# Altium integrated library RAM3001.IntLib: 15 symbols
Pins are listed as number, name and electrical type; pins without a type are passive.

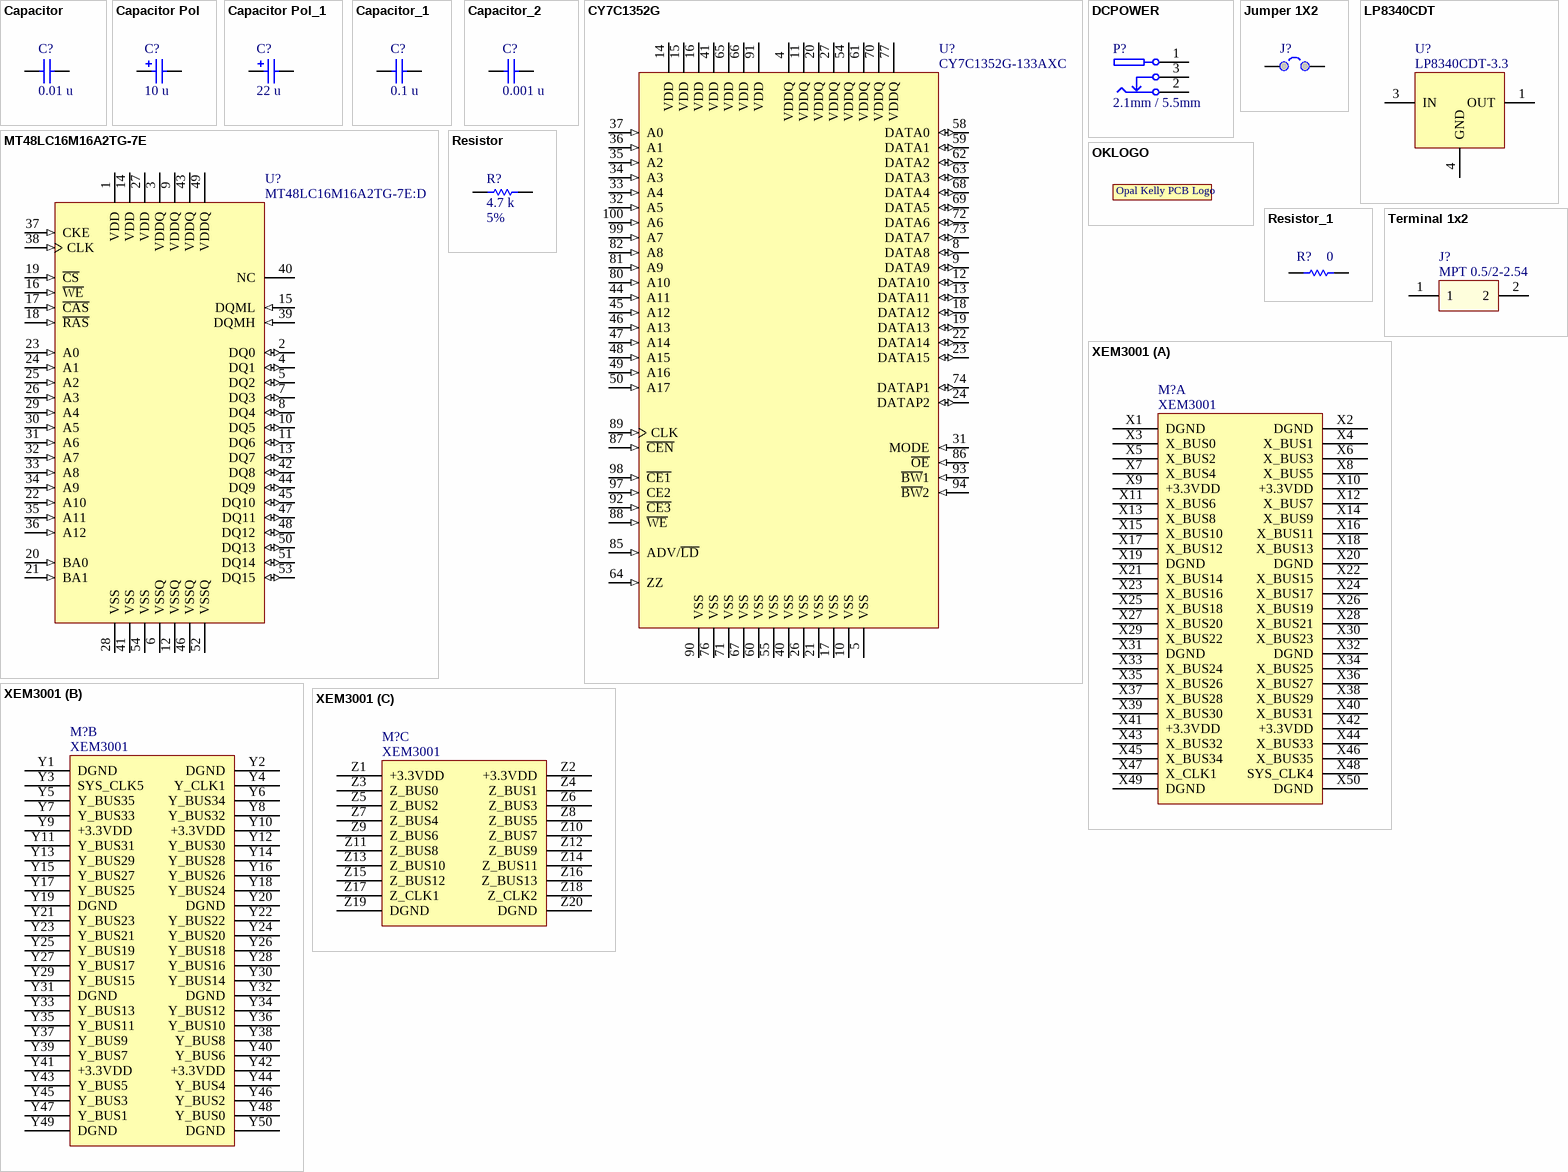
[diagram p0: symbols Capacitor to XEM3001]

## Capacitor
designator C?, comment value 0.01 u  (hidden comment: SM-0603, 10%, 16v)
Ceramic capacitor; Manufacturer: 14; PartNumber: 20; Class I: Passive; Published: 8-Jun-2000; Revision: July-2002: Re-released for DXP Platform.; Publisher: Altium Limited; Class II: Capacitor; Price: 0.01
simulation model CAP (Capacitor)
signal-integrity model Cap
footprint CC1608-0603 (Chip Capacitor; Body 1.6 x 0.8 mm (LxW typ))
footprint CC1005-0402 (Chip Capacitor; Body 1.0 x 0.5 mm (LxW typ))
footprint CC2012-0805 (Chip Capacitor; Body 2.0 x 1.2 mm (LxW typ))
footprint CC3216-1206 (Chip Capacitor; Body 3.2 x 1.6 mm (LxW typ))
pins: 1, 2

## Capacitor Pol
designator C?, comment value 10 u  (hidden comment: SM-A, 10v, 10%)
Tantalum capacitor; Manufacturer: 13; PartNumber: 18; ManufacturerPartNumber: T491A106K010AS; Class I: Passive; Published: 8-Jun-2000; Revision: July-2002: Re-released for DXP Platform.; Publisher: Altium Limited; Class II: Capacitor; Price: 0.16; Distributor: 1; DistributorPartNumber: 399-1563-1-ND
footprint TC2013-0805 (Capacitor, SM Tantalum; Body 2.0 x 1.3 mm (LxW typ))
footprint TC3216-1206 (Capacitor, SM Tantalum; Body 3.2 x 1.6 mm (LxW typ))
footprint TC3528-1411 (Capacitor, SM Tantalum; Body 3.5 x 2.8 mm (LxW typ))
footprint TC6032-2412 (Capacitor, SM Tantalum; Body 6.0 x 3.2 mm (LxW typ))
pins: 1, 2

## Capacitor Pol_1
designator C?, comment value 22 u  (hidden comment: SM-A, 6.3v, 10%)
Tantalum capacitor; Manufacturer: 13; PartNumber: 87; ManufacturerPartNumber: T491B226K006AS; Class I: Passive; Published: 8-Jun-2000; Revision: July-2002: Re-released for DXP Platform.; Publisher: Altium Limited; Class II: Capacitor; Price: 0.2242; Distributor: 1; DistributorPartNumber: 399-1554-1-ND
footprint TC2013-0805 (Capacitor, SM Tantalum; Body 2.0 x 1.3 mm (LxW typ))
footprint TC3216-1206 (Capacitor, SM Tantalum; Body 3.2 x 1.6 mm (LxW typ))
footprint TC3528-1411 (Capacitor, SM Tantalum; Body 3.5 x 2.8 mm (LxW typ))
footprint TC6032-2412 (Capacitor, SM Tantalum; Body 6.0 x 3.2 mm (LxW typ))
pins: 1, 2

## Capacitor_1
designator C?, comment value 0.1 u  (hidden comment: SM-0603, 10%, 16v)
Ceramic capacitor; Manufacturer: 14; PartNumber: 19; Class I: Passive; Published: 8-Jun-2000; Revision: July-2002: Re-released for DXP Platform.; Publisher: Altium Limited; Class II: Capacitor; Price: 0.01
simulation model CAP (Capacitor)
signal-integrity model Cap
footprint CC1608-0603 (Chip Capacitor; Body 1.6 x 0.8 mm (LxW typ))
footprint CC1005-0402 (Chip Capacitor; Body 1.0 x 0.5 mm (LxW typ))
footprint CC2012-0805 (Chip Capacitor; Body 2.0 x 1.2 mm (LxW typ))
footprint CC3216-1206 (Chip Capacitor; Body 3.2 x 1.6 mm (LxW typ))
pins: 1, 2

## Capacitor_2
designator C?, comment value 0.001 u  (hidden comment: SM-0603, 10%, 16v)
Ceramic capacitor; Manufacturer: 14; PartNumber: 86; Class I: Passive; Published: 8-Jun-2000; Revision: July-2002: Re-released for DXP Platform.; Publisher: Altium Limited; Class II: Capacitor; Price: 0.01
simulation model CAP (Capacitor)
signal-integrity model Cap
footprint CC1608-0603 (Chip Capacitor; Body 1.6 x 0.8 mm (LxW typ))
footprint CC1005-0402 (Chip Capacitor; Body 1.0 x 0.5 mm (LxW typ))
footprint CC2012-0805 (Chip Capacitor; Body 2.0 x 1.2 mm (LxW typ))
footprint CC3216-1206 (Chip Capacitor; Body 3.2 x 1.6 mm (LxW typ))
pins: 1, 2

## CY7C1352G
designator U?, comment ManufacturerPartNumber: CY7C1352G-133AXC  (hidden comment: 2.5v/3.3v, 133 MHz, 256kx18)
4Mb Pipelined SRAM, NoBL; PartNumber: 82; Manufacturer: 2; Price: 6.4
footprint TQFP-100 (IPC Rectangular TQFP 100 Package)
pins: 4 VDDQ (power), 5 VSS (power), 8 DATA8 (io), 9 DATA9 (io), 10 VSS (power), 11 VDDQ (power), 12 DATA10 (io), 13 DATA11 (io), 14 VDD (power), 15 VDD (power), 16 VDD (power), 17 VSS (power), 18 DATA12 (io), 19 DATA13 (io), 20 VDDQ (power), 21 VSS (power), 22 DATA14 (io), 23 DATA15 (io), 24 DATAP2 (io), 26 VSS (power), 27 VDDQ (power), 31 MODE (in), 32 A5 (in), 33 A4 (in), 34 A3 (in), 35 A2 (in), 36 A1 (in), 37 A0 (in), 40 VSS (power), 41 VDD (power), 44 A11 (in), 45 A12 (in), 46 A13 (in), 47 A14 (in), 48 A15 (in), 49 A16 (in), 50 A17 (in), 54 VDDQ (power), 55 VSS (power), 58 DATA0 (io), 59 DATA1 (io), 60 VSS (power), 61 VDDQ (power), 62 DATA2 (io), 63 DATA3 (io), 64 ZZ (in), 65 VDD (power), 66 VDD (power), 67 VSS (power), 68 DATA4 (io), 69 DATA5 (io), 70 VDDQ (power), 71 VSS (power), 72 DATA6 (io), 73 DATA7 (io), 74 DATAP1 (io), 76 VSS (power), 77 VDDQ (power), 80 A10 (in), 81 A9 (in), 82 A8 (in), 85 ADV/~{LD} (in), 86 ~{OE} (in), 87 ~{CEN} (in), 88 ~{WE} (in), 89 CLK (in), 90 VSS (power), 91 VDD (power), 92 ~{CE3} (in), 93 ~{BW}1 (in), 94 ~{BW}2 (in), 97 CE2 (in), 98 ~{CE1} (in), 99 A7 (in), 100 A6 (in)

## DCPOWER
designator P?, comment 2.1mm / 5.5mm
DC power connector; Manufacturer: 21; PartNumber: 38; ManufacturerPartNumber: PJ-102A; Revision: November 23, 2003; Publisher: Opal Kelly; Class I: Connector; Price: 0.38; Distributor: 1; DistributorPartNumber: CP-102A-ND
footprint CUI-PJ102A (2.1mm/5.5mm DC power jack)
3D model CUI-PJ102A (PCB3D Model)
pins: 1, 2, 3

## Jumper 1X2
designator J?, comment 0.1" spacing  (value not drawn)
Header; Manufacturer: 11; PartNumber: 15; ManufacturerPartNumber: 4-103186-0; Class I: Connector; Revision: July-2002: Re-released for DXP Platform.; Publisher: Altium Limited; Price: 0.05; Distributor: 1; DistributorPartNumber: A26529
footprint HDR1X2
footprint HDR1X2-2MM (2mm 1x2 header)
3D model AMP-103186 (PCB3D Model)
pins: 1, 2

## LP8340CDT
designator U?, comment ManufacturerPartNumber: LP8340CDT-3.3  (hidden comment: 1A, 3-pin DPAK)
LDO Regulator; Manufacturer: 4; PartNumber: 83; Publisher: Opal Kelly; Price: 1.1; Distributor: 1; DistributorPartNumber: LP8340CDT-3.3-ND
footprint SIP-G3/Z11.05 (D-PAK/TO-252-AA; 3 Leads (1 Cropped); Body 10.3 (inc. leads) x 6.7 mm (LxW max))
pins: 1 OUT (power), 3 IN (power), 4 GND (power)

## MT48LC16M16A2TG-7E
designator U?, comment ManufacturerPartNumber: MT48LC16M16A2TG-7E:D  (hidden comment: 4Mbx16x4, TSOP)
32MB SDRAM; PartNumber: 88; Manufacturer: 17; CycleTime: 7.5ns @ CL = 2 (PC133); RowAddress: 8K (A0-A12); ColumnAddress: 512 (A0-A8); Published: 11-Oct-2004; DatasheetDocument: rev.G, Sep-2003; PackageDocument: Sep-2003; PackageReference: TSOP2-54; Publisher: Altium Limited; Code_JEDEC: MS-024-FA; ComponentLink1Description: Manufacturer Link; ComponentLink1URL: http://www.micron.com; ComponentLink2Description: Datasheet; ComponentLink2URL: http://download.micron.com/pdf/datasheets/dram/sdram/256MSDRAM.pdf; Price: 8.4; Distributor: 3
footprint TSOP2-54 (Plastic Small Outline; 54 Leads; Body Width 10.16 mm)
pins: 1 VDD (power) "Power Supply", 2 DQ0 (io) "Data Input/Output 0", 3 VDDQ (power) "DQ Power", 4 DQ1 (io) "Data Input/Output 1", 5 DQ2 (io) "Data Input/Output 2", 6 VSSQ (power) "DQ Ground", 7 DQ3 (io) "Data Input/Output 3", 8 DQ4 (io) "Data Input/Output 4", 9 VDDQ (power) "DQ Power", 10 DQ5 (io) "Data Input/Output 5", 11 DQ6 (io) "Data Input/Output 6", 12 VSSQ (power) "DQ Ground", 13 DQ7 (io) "Data Input/Output 7", 14 VDD (power) "Power Supply", 15 DQML (in) "Input/Output Mask for DQ0-DQ7", 16 ~{WE} (in) "Command Input", 17 ~{CAS} (in) "Command Input", 18 ~{RAS} (in) "Command Input", 19 ~{CS} (in) "Chip Select", 20 BA0 (in) "Bank Address Input 0", 21 BA1 (in) "Bank Address Input 1", 22 A10 (in) "Address Input 10", 23 A0 (in) "Address Input 0", 24 A1 (in) "Address Input 1", 25 A2 (in) "Address Input 2", 26 A3 (in) "Address Input 3", 27 VDD (power) "Power Supply", 28 VSS (power) "Ground", 29 A4 (in) "Address Input 4", 30 A5 (in) "Address Input 5", 31 A6 (in) "Address Input 6", 32 A7 (in) "Address Input 7", 33 A8 (in) "Address Input 8", 34 A9 (in) "Address Input 9", 35 A11 (in) "Address Input 11", 36 A12 (in) "Address Input 12", 37 CKE (in) "Clock Enable", 38 CLK (in) "Clock", 39 DQMH (in) "Input/Output Mask for DQ8-DQ15", 40 NC "No Connect", 41 VSS (power) "Ground", 42 DQ8 (io) "Data Input/Output 8", 43 VDDQ (power) "DQ Power", 44 DQ9 (io) "Data Input/Output 9", 45 DQ10 (io) "Data Input/Output 10", 46 VSSQ (power) "DQ Ground", 47 DQ11 (io) "Data Input/Output 11", 48 DQ12 (io) "Data Input/Output 12", 49 VDDQ (power) "DQ Power", 50 DQ13 (io) "Data Input/Output 13", 51 DQ14 (io) "Data Input/Output 14", 52 VSSQ (power) "DQ Ground", 53 DQ15 (io) "Data Input/Output 15", 54 VSS (power) "Ground"

## OKLOGO
designator ?  (value not drawn)
Opal Kelly PCB Logo; Opal Kelly: Publisher; September 2004: Date
footprint oklogo (Opal Kelly silkscreen logo.)
footprint oklogosmall (Opal Kelly silkscreen logo (100-mil).)
footprint oklogotiny (Opal Kelly silkscreen logo (50 mil).)

## Resistor
designator R?, comment value 4.7 k  Tolerance: 5%  (hidden comment: SM-0603, 5%, 1/10W)
Thick-film resistor; Manufacturer: 14; PartNumber: 26; Class I: Passive; Published: 8-Jun-2000; Revision: July-2002: Re-released for DXP Platform.; Publisher: Altium Limited; Class II: Resistor; Price: 0.01
simulation model RESISTOR (Resistor)
signal-integrity model Res1
footprint CR1608-0603 (Chip Resistor; Body 1.6 x 0.8 mm (LxW typ))
footprint CR1005-0402 (Chip Resistor; Body 1.1 x 0.5 mm (LxW typ))
pins: 1, 2

## Resistor_1
designator R?, comment value 0  (hidden comment: SM-0603, 5%, 1/10W)
Thick-film resistor; Manufacturer: 14; PartNumber: 51; Class I: Passive; Published: 8-Jun-2000; Revision: July-2002: Re-released for DXP Platform.; Publisher: Altium Limited; Class II: Resistor; Tolerance: 5%; Price: 0.01
simulation model RESISTOR (Resistor)
signal-integrity model Res1
footprint CR1608-0603 (Chip Resistor; Body 1.6 x 0.8 mm (LxW typ))
footprint CR1005-0402 (Chip Resistor; Body 1.1 x 0.5 mm (LxW typ))
footprint CR3216-1206 (Chip Resistor; Body 3.2 x 1.6 mm (LxW typ))
pins: 1, 2

## Terminal 1x2
designator J?, comment ManufacturerPartNumber: MPT 0.5/2-2.54  (hidden comment: 2.54mm, 2-position)
Terminal block connector; PartNumber: 84; Manufacturer: 24; Price: 0.9156; Distributor: 1; DistributorPartNumber: 277-1273-ND
footprint MPT-0.5/2-2.54 (Terminal Block 1x2)
3D model Null3D (PCB3D Model)
pins: 1, 2

## XEM3001
designator M?
XEM3001 Module Connector; Manufacturer: Generic Components; Revision: 20040624; Publisher: Opal Kelly; Class I: Connector
footprint XEM3001MODULE
3D model Null3D (PCB3D Model)
part A pins: X1 DGND (power), X2 DGND (power), X3 X_BUS0, X4 X_BUS1, X5 X_BUS2, X6 X_BUS3, X7 X_BUS4, X8 X_BUS5, X9 +3.3VDD (power), X10 +3.3VDD (power), X11 X_BUS6, X12 X_BUS7, X13 X_BUS8, X14 X_BUS9, X15 X_BUS10, X16 X_BUS11, X17 X_BUS12, X18 X_BUS13, X19 DGND (power), X20 DGND (power), X21 X_BUS14, X22 X_BUS15, X23 X_BUS16, X24 X_BUS17, X25 X_BUS18, X26 X_BUS19, X27 X_BUS20, X28 X_BUS21, X29 X_BUS22, X30 X_BUS23, X31 DGND (power), X32 DGND (power), X33 X_BUS24, X34 X_BUS25, X35 X_BUS26, X36 X_BUS27, X37 X_BUS28, X38 X_BUS29, X39 X_BUS30, X40 X_BUS31, X41 +3.3VDD (power), X42 +3.3VDD (power), X43 X_BUS32, X44 X_BUS33, X45 X_BUS34, X46 X_BUS35, X47 X_CLK1, X48 SYS_CLK4, X49 DGND (power), X50 DGND (power)
part B pins: Y1 DGND (power), Y2 DGND (power), Y3 SYS_CLK5, Y4 Y_CLK1, Y5 Y_BUS35, Y6 Y_BUS34, Y7 Y_BUS33, Y8 Y_BUS32, Y9 +3.3VDD (power), Y10 +3.3VDD (power), Y11 Y_BUS31, Y12 Y_BUS30, Y13 Y_BUS29, Y14 Y_BUS28, Y15 Y_BUS27, Y16 Y_BUS26, Y17 Y_BUS25, Y18 Y_BUS24, Y19 DGND (power), Y20 DGND (power), Y21 Y_BUS23, Y22 Y_BUS22, Y23 Y_BUS21, Y24 Y_BUS20, Y25 Y_BUS19, Y26 Y_BUS18, Y27 Y_BUS17, Y28 Y_BUS16, Y29 Y_BUS15, Y30 Y_BUS14, Y31 DGND (power), Y32 DGND (power), Y33 Y_BUS13, Y34 Y_BUS12, Y35 Y_BUS11, Y36 Y_BUS10, Y37 Y_BUS9, Y38 Y_BUS8, Y39 Y_BUS7, Y40 Y_BUS6, Y41 +3.3VDD (power), Y42 +3.3VDD (power), Y43 Y_BUS5, Y44 Y_BUS4, Y45 Y_BUS3, Y46 Y_BUS2, Y47 Y_BUS1, Y48 Y_BUS0, Y49 DGND (power), Y50 DGND (power)
part C pins: Z1 +3.3VDD (power), Z2 +3.3VDD (power), Z3 Z_BUS0, Z4 Z_BUS1, Z5 Z_BUS2, Z6 Z_BUS3, Z7 Z_BUS4, Z8 Z_BUS5, Z9 Z_BUS6, Z10 Z_BUS7, Z11 Z_BUS8, Z12 Z_BUS9, Z13 Z_BUS10, Z14 Z_BUS11, Z15 Z_BUS12, Z16 Z_BUS13, Z17 Z_CLK1, Z18 Z_CLK2, Z19 DGND (power), Z20 DGND (power)